# Altium footprint library IXYK110N120A4.PcbLib: 1 footprints
Each footprint in its own frame and in the unit in brackets; x right, y up, seen from the top. Pads: shape width x height; smd on the part's side, far side on the other; paste and mask are expansions set on the pad; w line width, h text height; cw(c..) or ccw(c..) is an arc to the next point about the centre after c.
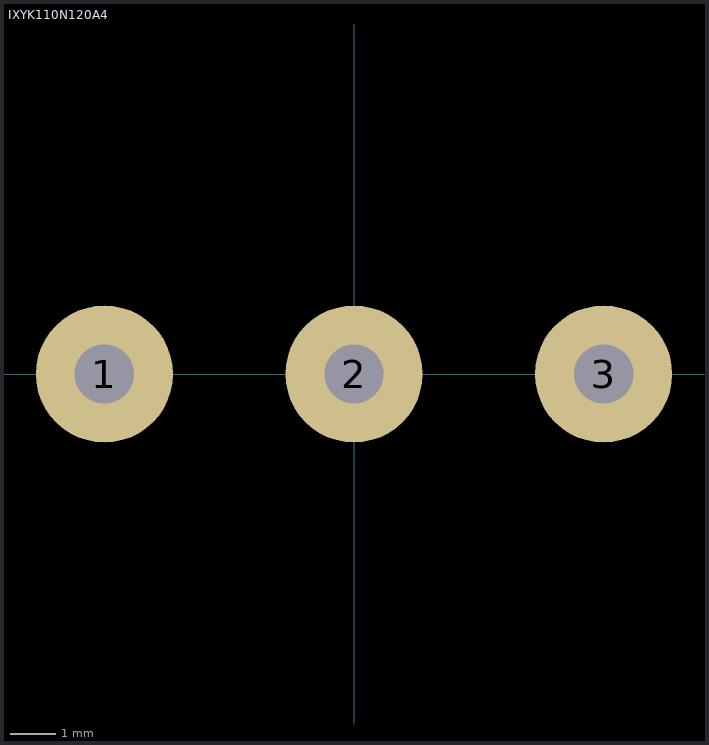
[diagram p0: the footprint, top view; thin cyan lines are the x and y axes]

## IXYK110N120A4 [mm] "IGBT"
pads (3):
  round 3 hole 1.3: 1(-5.461,0) 2(0,0) 3(5.461,0)
3D body "IXYK110N120A4.SLDPRT": height 5.7, standoff -5.8, extent -10.15,-0.3 10.15,31.3